# Altium footprint library SOT-223-5.PcbLib: 1 footprints
Each footprint in its own frame and in the unit in brackets; x right, y up, seen from the top. Pads: shape width x height; smd on the part's side, far side on the other; paste and mask are expansions set on the pad; w line width, h text height; cw(c..) or ccw(c..) is an arc to the next point about the centre after c.
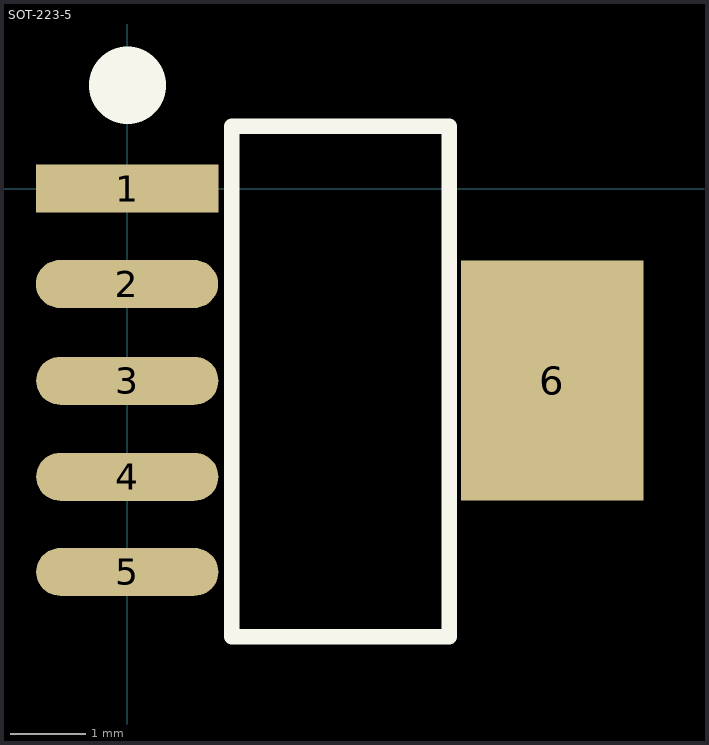
[diagram p0: the footprint, top view; thin cyan lines are the x and y axes]

## SOT-223-5 [mil]
height 71
pads (6):
  rect 95x25 smd: 1(-0.09,-0.09)
  oval 95x25 smd: 2(-0.25,-49.75) 3(-0.09,-100.17) 4(-0.09,-150.21) 5(-0.09,-199.78)
  rect 95x125 smd: 6(221.33,-100.12)
TopOverlay:
  lines w8: 54.31,-233.6 167.66,-233.6 167.66,32.4 54.31,32.4 54.31,-233.6
  lines w40: 0,53.6 0,54